# EAGLE library part TA8215H/L (library Audio-Power-amlifier V.2.0)
Toshiba 18W BTLx2CH AUDIO POWER AMPLIFIER
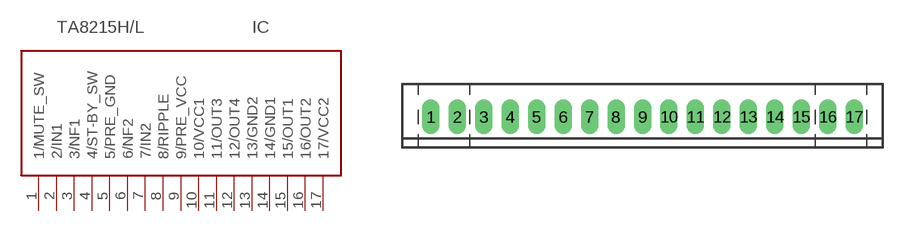
[diagram p118: symbol with the pads of HSIP17-P-2.00; footprint HSIP17-P-2.00]

Designator prefix IC

## TA8215H/LTA8215H  [HSIP17-P-2.00]
1  1/MUTE_SW
2  2/IN1  in
3  3/NF1  in
4  4/ST-BY_SW
5  5/PRE_GND  pwr
6  6/NF2  in
7  7/IN2  in
8  8/RIPPLE
9  9/PRE_VCC
10  10/VCC1  pwr
11  11/OUT3  out
12  12/OUT4  out
13  13/GND2  pwr
14  14/GND1  pwr
15  15/OUT1  out
16  16/OUT2  out
17  17/VCC2  pwr

## TA8215H/LTA8215L  [HSIP17-P-2.00]
Pads as for HSIP17-P-2.00

## Footprint HSIP17-P-2.00 (pad centres in mm)
HSIP17-P-2.00 Source: http://www.semicon.toshiba.co.jp/td/en/ASSP/Audio_ICs/en_20050517_TA8210ALQ_datasheet.pdf
drill 0.8 pad 1.2 long: 1 -16,0; 2 -14,0; 3 -12,0; 4 -10,0; 5 -8,0; 6 -6,0; 7 -4,0; 8 -2,0; 9 0,0; 10 2,0; 11 4,0; 12 6,0; 13 8,0; 14 10,0; 15 12,0; 16 14,0; 17 16,0